# Altium schematic symbol library General - copia.SchLib: 201 symbols (part 1 of 3)
Pins are listed as number, name and electrical type; pins without a type are passive.

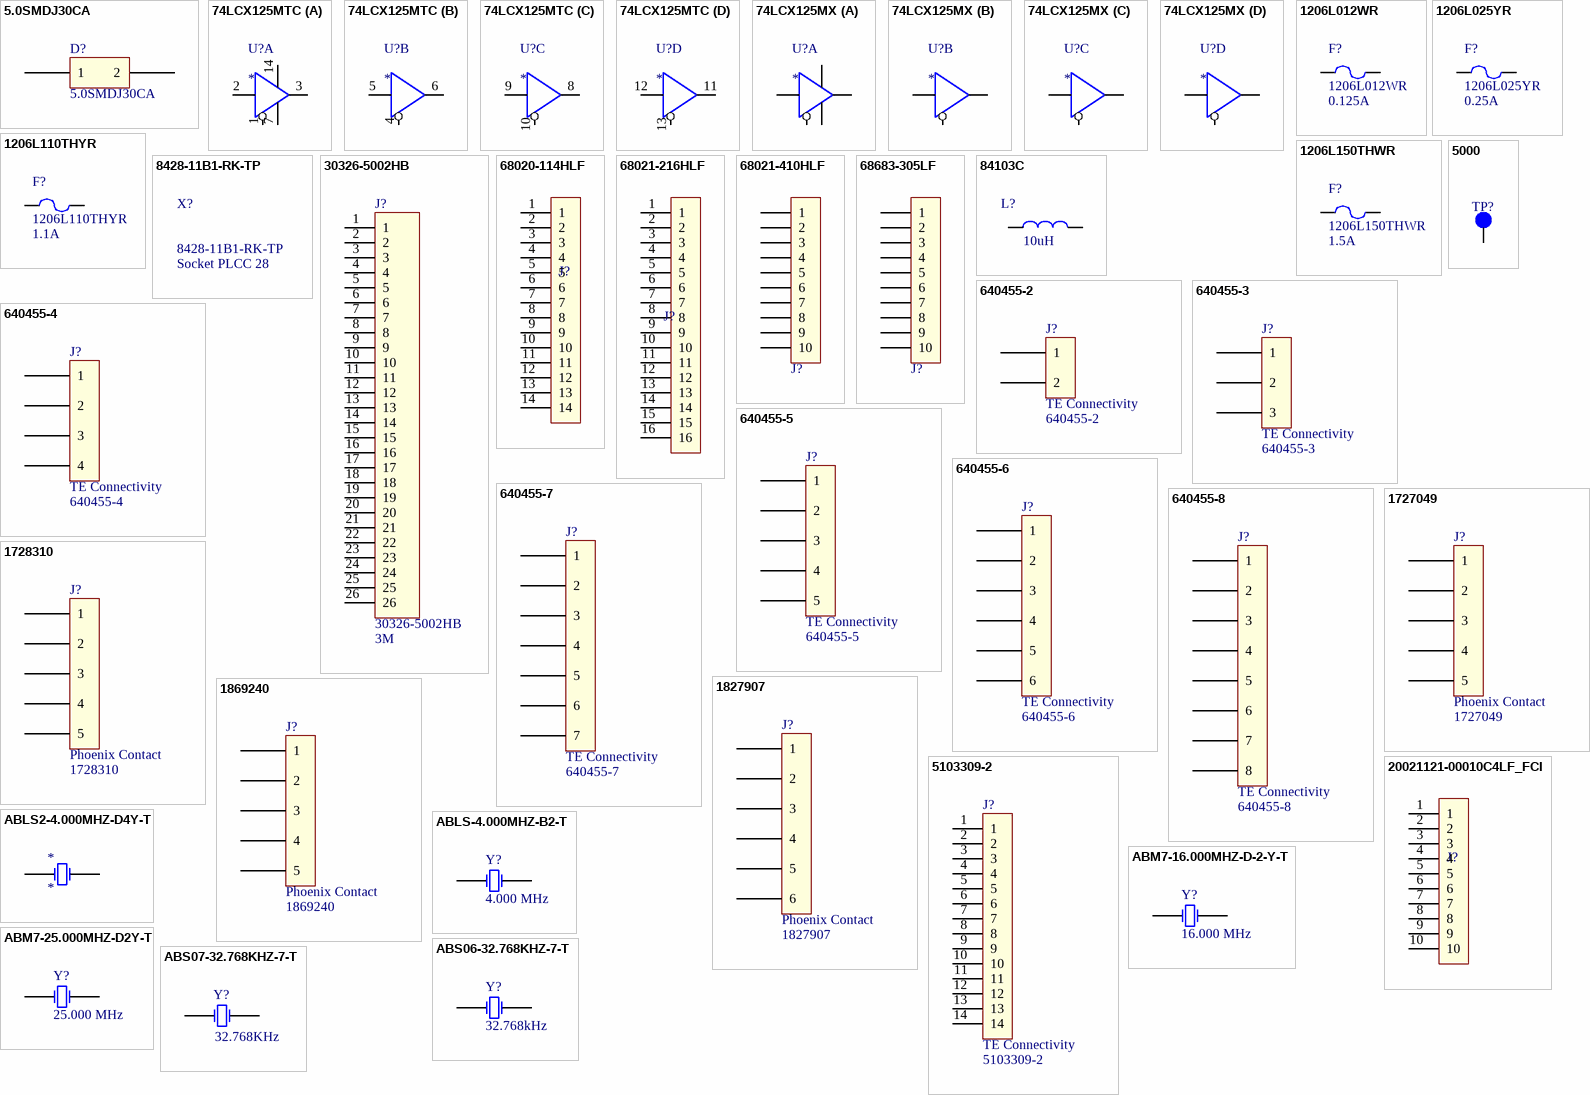
[diagram p0: symbols 5.0SMDJ30CA to ABS07-32.768KHZ-7-T]

## 5.0SMDJ30CA
designator D?
TVS DIODE 30V 48.4V DO214AB; Manufacturer: Bourns; Supplier 1: Digi-Key; Supplier 2: Mouser; Supplier Part Number 1: F6258CT-ND; Supplier Part Number 2: 576-5.0SMDJ30CA; Part Number: 5.0SMDJ30CA
footprint SMC - DIODE BIIDIR - DIOM6959X25M (Molded Diode, 2-Leads, Body 6,9x5,9mm, IPC Low Density)
pins: 1, 2

## 74LCX125MTC
designator U?
Low Voltage Quad Buffer with 5V tolerant; Manufacturer: Fairchild; Part Number: 74LCX125MTC; Supplier 1: Digi-Key; Supplier Part Number 1: 74LCX125MTC-ND; Supplier 2: Mouser; Supplier Part Number 2: 512-74LCX125MTC
footprint TSSOP 14 - TSOP65P640X120-14M (TSOP, 14-Leads, Body 5,1x4,5mm (max), Pitch 0,65mm, IPC Low Density)
part A pins: 1 OE0, 2 A0, 3 O0, 7 GND, 14 VCC
part B pins: 4 OE1, 5 A1, 6 O1
part C pins: 8 O3, 9 A3, 10 OE3
part D pins: 11 O2, 12 A2, 13 OE2

## 74LCX125MX
designator U?
IC BUFFER QUAD LV N-INV 14SOIC; Manufacturer: Fairchild; Part Number: 74LCX125MX; Supplier 1: Digi-Key; Supplier Part Number 1: 74LCX125MXCT-ND; Supplier 2: Mouser; Supplier Part Number 2: 512-74LCX125MX
footprint SOIC14 (SOIC, 14-Leads, Body 10.0x4.0mm (max), Pitch 1.27mm, IPC Medium Density)
part A pins: 1 OE0, 2 A0, 3 O0, 7 GND, 14 VCC
part B pins: 4 OE1, 5 A1, 6 O1
part C pins: 8 O3, 9 A3, 10 OE3
part D pins: 11 O2, 12 A2, 13 OE2

## 1206L012WR
designator F?  Current Hold: 0.125A  (hidden comment: 1206L012WR)
PTC RESET 30V .125A SMD 1206; Manufacturer: Littelfuse Inc; Current Trip: 0.29A; Supplier 1: Digi-Key; Supplier Part Number 1: F2864CT-ND; Supplier 2: Mouser; Supplier Part Number 2: 576-1206L012WR; Part Number: 1206L012WR
footprint 1206 - IND - INDC3216X12N (Chip, 2-Leads, Body 3.2x1.6mm, IPC Medium Density)
pins: 1, 2

## 1206L025YR
designator F?  Current Hold: 0.25A  (hidden comment: 1206L025YR)
FUSE PTC RESET 16V .25A 1206; Manufacturer: Littelfuse Inc; Current Trip: 0.5A; Supplier 1: Digi-Key; Supplier Part Number 1: F2110CT-ND; Supplier 2: Mouser; Supplier Part Number 2: 576-1206L025YR; Part Number: 1206L025YR
footprint 1206 - IND - INDC3216X12N (Chip, 2-Leads, Body 3.2x1.6mm, IPC Medium Density)
pins: 1, 2

## 1206L110THYR
designator F?  Current Hold: 1.1A  (hidden comment: 1206L110THYR)
FUSE PTC RESET 8V 1.10A 1206; Manufacturer: Littelfuse Inc; Current Trip: 2.2A; Supplier 1: Digi-Key; Supplier Part Number 1: F3371CT-ND; Supplier 2: Mouser; Supplier Part Number 2: 576-1206L110THYR; Part Number: 1206L110THYR
footprint 1206 - IND - INDC3216X12N (Chip, 2-Leads, Body 3.2x1.6mm, IPC Medium Density)
pins: 1, 2

## 1206L150THWR
designator F?  Current Hold: 1.5A  (hidden comment: 1206L150THWR)
FUSE PTC RESET 8V 1.50A 1206; Manufacturer: Littelfuse Inc; Current Trip: 3.0A; Supplier 1: Digi-Key; Supplier Part Number 1: F3372CT-ND; Supplier 2: Mouser; Supplier Part Number 2: 576-1206L150THWR; Part Number: 1206L150THWR
footprint 1206 - IND - INDC3216X12N (Chip, 2-Leads, Body 3.2x1.6mm, IPC Medium Density)
pins: 1, 2

## 5000
designator TP?  (value not drawn)
TEST POINT PC MINI .040"D RED; Manufacturer: Keystone Electronics; Part Number: 5000; Supplier 1: Digi-Key; Supplier Part Number 1: 36-5000-ND; Supplier 2: Mouser; Supplier Part Number 2: 534-5000
footprint TESTPOINT
pins: 1

## 8428-11B1-RK-TP
designator X?  Part Number: 8428-11B1-RK-TP  Text: Socket PLCC 28  (hidden comment: *)  (mechanical)
CONN JUMPER SHORTING GOLD FLASH; Manufacturer: 3M; Supplier 1: Digi-Key; Supplier Part Number 1: 3M2811B1-ND; Supplier 2: Mouser; Supplier Part Number 2: 517-8428-11B1-RK-TP

## 30326-5002HB
designator J?  Manufacturer: 3M  Part Number: 30326-5002HB
26 Positions Header, Shrouded Connector 0.100" (2.54mm) Through Hole, Right Angle Gold; Mating Conn: 89126-0101; Supplier 1: Digi-Key; Supplier Part Number 1: 3M11933-ND
footprint 30326-5002HB
pins: 1, 2, 3, 4, 5, 6, 7, 8, 9, 10, 11, 12, 13, 14, 15, 16, 17, 18, 19, 20, 21, 22, 23, 24, 25, 26

## 68020-114HLF
designator J?
Headers & Wire Housings 14P SR UNSHRD HRD .76 GOLD OVER NI; Manufacturer: Amphenol FCI; Manufacturer Part Number: 68020-114HLF; Current Rating: 3A; Voltage Rating: 1.5kV; Number of Positions: 14; Insulation Resistance: 5GR; Gender: Male; Connector Type: Male Pin; Pitch: 2.54mm; Row Spacing: 0.1inch; Contact Post Length: 2.41mm; Supplier 1: Digi-Key; RoHS: Yes; Category: Headers and Wire Housings; Stock 1: 1436; Pricing 1: 1=0,71000, 10=0,66800, 100=0,51240, 500=0,44560, 1000=0,36762 (USD); Mount: Through Hole; Contact Plating: Gold,GXT; Contact Material: Bronze; Color: Black; Housing Color: Black; Housing Material: Thermoplastic; Min Operating Temperature: -65°C; Max Operating Temperature: 125°C; Package Quantity: 100; Packaging: Bulk; Number of Rows: 2; Contact Gender: Male; Termination: Solder; Max Voltage Rating (AC): 1.5kV; Number of Contacts: 14; Orientation: Right Angle; Series: BERGSTIK® II, MezzSelect™, Basics+; Contact Type: Male Pin; Length: 17.78mm; Contact Mating Length: 0.23inch; Depth: 12.44mm; Radiation Hardening: No; Flammability Rating: UL94 V-0; RoHS Compliant: Yes; ComponentLink1URL: https://datasheet.ciiva.com/18653/68020-18653336.pdf?src-supplier=Digi-Key; ComponentLink1Description: https://datasheet.ciiva.com/18653/68020-18653336.pdf?src-supplier=Digi-Key; ComponentLink2URL: https://datasheet.ciiva.com/9473/68020-9473662.pdf?src-supplier=Avnet; ComponentLink2Description: https://datasheet.ciiva.com/9473/68020-9473662.pdf?src-supplier=Avnet; Supplier Part Number 1: 609-6346-ND
footprint 68020-114HLF
pins: 1, 2, 3, 4, 5, 6, 7, 8, 9, 10, 11, 12, 13, 14

## 68021-216HLF
designator J?
CONN HEADER 16POS .100 R/A 15AU; Manufacturer: Amphenol FCI; Manufacturer Part Number: 68021-216HLF; Current Rating: 3A; Voltage Rating: 1.5kV; Gender: Male; Connector Type: Male Pin; Number of Positions: 16; Insulation Resistance: 5GR; Pitch: 2.54mm; Row Spacing: 0.1inch; Contact Post Length: 3.05mm; Supplier 1: Digi-Key; RoHS: Yes; Category: Headers and Wire Housings; Stock 1: 520; Pricing 1: 1=0,77000, 10=0,67500, 100=0,58280, 500=0,47682, 1000=0,42384, 5000=0,37086, 10000=0,35232 (USD); Mount: Through Hole; Color: Black; Contact Plating: Gold,GXT; Contact Material: Bronze; Housing Material: Thermoplastic; Housing Color: Black; Min Operating Temperature: -65°C; Max Operating Temperature: 125°C; Package Quantity: 100; Number of Rows: 2; Packaging: Bulk; Contact Gender: Male; Orientation: Right Angle; Termination: Solder; Number of Contacts: 16; Max Voltage Rating (AC): 1.5kV; Length: 20.32mm; Contact Mating Length: 0.23inch; Depth: 12.44mm; Flammability Rating: UL94 V-0; ComponentLink1URL: https://datasheet.ciiva.com/728/68020-728976.pdf?src-supplier=Digi-Key; ComponentLink1Description: https://datasheet.ciiva.com/728/68020-728976.pdf?src-supplier=Digi-Key
footprint 68021-216HLF
pins: 1, 2, 3, 4, 5, 6, 7, 8, 9, 10, 11, 12, 13, 14, 15, 16

## 68021-410HLF
designator J?  (value not drawn)
CONN MALE HEADER 10POS 2ROWS .100 R/A TIN; Manufacturer: Amphenol FCI; Manufacturer Part Number: 68021-410HLF; Current Rating: 3A; Voltage Rating: 1.5kV; Number of Positions: 10; Insulation Resistance: 5GR; Connector Type: Male Pin; Pitch: 2.54mm; Row Spacing: 0.1inch; Contact Post Length: 3.05mm; Supplier 1: Digi-Key; RoHS: Yes; Category: Headers and Wire Housings; Stock 1: 1500; Pricing 1: 1=0,40000, 10=0,37900, 100=0,26510, 500=0,22722, 1000=0,18935, 5000=0,16230, 10000=0,15148 (USD); Mount: Through Hole; Contact Plating: Tin; Contact Material: Bronze; Color: Black; Housing Color: Black; Housing Material: Thermoplastic; Min Operating Temperature: -65°C; Max Operating Temperature: 125°C; Number of Rows: 2; Contact Gender: Male; Packaging: Bulk; Package Quantity: 100; Termination: Solder; Number of Contacts: 10; Max Voltage Rating (AC): 1.5kV; Orientation: Right Angle; Gender: Male; Series: BERGSTIK® II, MezzSelect™, Basics+; Contact Type: Male Pin; Length: 12.7mm; Contact Mating Length: 0.23inch; Depth: 12.44mm; Radiation Hardening: No; REACH SVHC: No SVHC; Flammability Rating: UL94 V-0; RoHS Compliant: Yes; ComponentLink1URL: https://datasheet.ciiva.com/728/68020-728889.pdf?src-supplier=Digi-Key; ComponentLink1Description: https://datasheet.ciiva.com/728/68020-728889.pdf?src-supplier=Digi-Key; ComponentLink2URL: https://datasheet.ciiva.com/9473/68020-9473769.pdf?src-supplier=Avnet; ComponentLink2Description: https://datasheet.ciiva.com/9473/68020-9473769.pdf?src-supplier=Avnet; Supplier Part Number 1: 609-3354-ND
footprint 68021-410HLF
pins: 1, 2, 3, 4, 5, 6, 7, 8, 9, 10

## 68683-305LF
designator J?  (value not drawn)
CONN FEMALE 10POS 2ROWS 0.1 GOLD PCB; Manufacturer Series: 68683; Manufacturer Part Number: 68683-305LF; Manufacturer: Amphenol FCI; Voltage Rating: 1kV; Current Rating: 3A; Contact Resistance: 20mR; Max Current Rating: 2A; Connector Type: Receptacle; Number of Positions: 10; Option: General Purpose; Number of Rows Loaded: 2; Filter Feature: No; Pitch: 2.54mm; Row Spacing: 0.1inch; Stack Height: 7mm; Supplier 1: Digi-Key; RoHS: Yes; Category: Headers and Wire Housings; Stock 1: 635; Pricing 1: 1=1,62000, 10=1,47400, 100=1,26320, 500=1,05262, 1000=0,90225, 5000=0,80000, 10000=0,78195 (USD); Mount: Through Hole,Board; Color: Black; Contact Material: Bronze,Copper Alloy; Contact Plating: Gold; Housing Color: Black; Housing Material: Polyphenylene; Contact Finish - Termination: TIN (160); Min Operating Temperature: -65°C; Max Operating Temperature: 125°C; Package Quantity: 45; Number of Rows: 2; Packaging: Rail/Tube; Contact Gender: Female; Termination: Solder; Number of Contacts: 10; Max Voltage Rating (AC): 1kV; Gender: Receptacle; Orientation: Straight; Series: DUBOX™, MezzSelect™, Basics+; Contact Type: Female Socket; Mounting Style: STRAIGHT; Mixed Contacts: No; Length: 13.13mm; Width: 5.08mm; Height: 9.91mm; Depth: 5.08mm; Radiation Hardening: No; REACH SVHC: No SVHC; Lead Free: Lead Free; Flammability Rating: UL94 V-0; DIN Conformance: No; IEC Conformance: No; MIL Conformance: No; RoHS Compliant: Yes; ComponentLink1URL: https://datasheet.ciiva.com/26945/getdatasheetpartid-65898-26945509.pdf?src-supplier=Verical; ComponentLink1Description: https://datasheet.ciiva.com/26945/getdatasheetpartid-65898-26945509.pdf?src-supplier=Verical; ComponentLink2URL: https://datasheet.ciiva.com/46394/1483115-46394762.pdf?src-supplier=Element14; ComponentLink2Description: https://datasheet.ciiva.com/46394/1483115-46394762.pdf?src-supplier=Element14; ComponentLink3URL: https://datasheet.ciiva.com/16738/68683-16738509.pdf?src-supplier=Avnet+Europe; ComponentLink3Description: https://datasheet.ciiva.com/16738/68683-16738509.pdf?src-supplier=Avnet+Europe; ComponentLink4URL: https://datasheet.ciiva.com/752/68683-752708.pdf?src-supplier=Digi-Key; ComponentLink4Description: https://datasheet.ciiva.com/752/68683-752708.pdf?src-supplier=Digi-Key; ComponentLink5URL: https://datasheet.ciiva.com/9473/68683-9473656.pdf?src-supplier=Avnet; ComponentLink5Description: https://datasheet.ciiva.com/9473/68683-9473656.pdf?src-supplier=Avnet; Supplier Part Number 1: 609-3573-ND; Part Number: 68683-305LF
footprint 68683-305LF
pins: 1, 2, 3, 4, 5, 6, 7, 8, 9, 10

## 84103C
designator L?  value 10uH  (hidden comment: 84103C)
FIXED IND 10UH 950MA 240 MOHM; Manufacturer: Murata Power Solutions Inc.; Part Number: 84103C; Supplier 1: Digi-Key; Supplier Part Number 1: 811-3631-1-ND; Supplier 2: Mouser; Supplier Part Number 2: 580-84103C
footprint 84103C (Murata Inductor)
pins: 1, 2

## 640455-2
designator J?  Manufacturer: TE Connectivity  Part Number: 640455-2
CONN HEADER RTANG 2POS .100 TIN; Mating Conn: 1375820-2; Supplier 1: Digi-Key; Supplier Part Number 1: A19450-ND; Supplier 2: Mouser; Supplier Part Number 2: 571-6404552
footprint TE-640455-2 (CONN HEADER RTANG 2POS .100 TIN)
pins: 1, 2

## 640455-3
designator J?  Manufacturer: TE Connectivity  Part Number: 640455-3
CONN HEADER RTANG 3POS .100 TIN; Mating Conn: 1375820-3; Supplier 1: Digi-Key; Supplier Part Number 1: A19451-ND; Supplier 2: Mouser; Supplier Part Number 2: 571-6404553
footprint TE-640455-3 (CONN HEADER RTANG 3POS .100 TIN)
pins: 1, 2, 3

## 640455-4
designator J?  Manufacturer: TE Connectivity  Part Number: 640455-4
CONN HEADER RTANG 4POS .100 TIN; Mating Conn: 1375820-4; Supplier 1: Digi-Key; Supplier Part Number 1: A19452-ND; Supplier 2: Mouser; Supplier Part Number 2: 571-6404554
footprint TE-640455-4 (CONN HEADER RTANG 4POS .100 TIN)
pins: 1, 2, 3, 4

## 640455-5
designator J?  Manufacturer: TE Connectivity  Part Number: 640455-5
CONN HEADER RTANG 5POS .100 TIN; Mating Conn: 1375820-5; Supplier 1: Digi-Key; Supplier 2: Mouser; Supplier Part Number 1: A19453-ND; Supplier Part Number 2: 571-6404555
footprint TE-640455-5 (CONN HEADER RTANG 5POS .100 TIN)
pins: 1, 2, 3, 4, 5

## 640455-6
designator J?  Manufacturer: TE Connectivity  Part Number: 640455-6
CONN HEADER RTANG 6POS .100 TIN; Mating Conn: 1375820-6; Supplier 1: Digi-Key; Supplier Part Number 1: A19454-ND; Supplier 2: Mouser; Supplier Part Number 2: 571-6404556
footprint TE-640455-6 (CONN HEADER RTANG 6POS .100 TIN)
pins: 1, 2, 3, 4, 5, 6

## 640455-7
designator J?  Manufacturer: TE Connectivity  Part Number: 640455-7
CONN HEADER RTANG 7POS .100 TIN; Mating Conn: 1375820-7; Supplier 1: Digi-Key; Supplier 2: Mouser; Supplier Part Number 1: A19455-ND; Supplier Part Number 2: 571-640455-7
footprint TE-640455-7 (CONN HEADER RTANG 2POS .100 TIN)
pins: 1, 2, 3, 4, 5, 6, 7

## 640455-8
designator J?  Manufacturer: TE Connectivity  Part Number: 640455-8
CONN HEADER RTANG 8POS .100 TIN; Mating Conn: 1375820-8
footprint TE-640455-8 (CONN HEADER RTANG 8POS .100 TIN)
pins: 1, 2, 3, 4, 5, 6, 7, 8

## 1727049
designator J?  Manufacturer: Phoenix Contact  Part Number: 1727049
TERM BLK 5P SIDE ENT 3.81MM PCB
footprint PHOENIX CONTACT 1727049 (TERM BLK 5P SIDE ENT 3.81MM PCB)
pins: 1, 2, 3, 4, 5

## 1728310
designator J?  Manufacturer: Phoenix Contact  (hidden comment: 1728310)
TERM BLOCK 5POS 55DEG 3.81MM PCB; Part Number: 1728310
footprint PHOENIX 1728310 (TERM BLOCK 5POS 55DEG 3.81MM PCB)
pins: 1, 2, 3, 4, 5

## 1827907
designator J?  Manufacturer: Phoenix Contact  Part Number: 1827907
TERM BLOCK HDR 6POS R/A 3.81MM; Supplier 1: Digi-Key; Supplier Part Number 1: 277-5806-ND; Supplier 2: Mouser; Supplier Part Number 2: 651-1827907
footprint 1827907 (TERM BLOCK HDR 6POS R/A 3.81M)
pins: 1, 2, 3, 4, 5, 6

## 1869240
designator J?  Manufacturer: Phoenix Contact  (hidden comment: 1869240)
TERM BLOCK 5POS 55DEG 5.08MM PCB; Supplier 1: Digi-Key; Supplier Part Number 1: 277-6108-ND; Supplier 2: Mouser; Supplier Part Number 2: 651-1869240; Part Number: 1869240
pins: 1, 2, 3, 4, 5

## 5103309-2
designator J?  Manufacturer: TE Connectivity  (hidden comment: 5103309-2)
CONN HEADER VERT 14POS 2.54MM; Supplier 1: Digi-Key; Supplier Part Number 1: A33162-ND; Supplier 2: Mouser; Supplier Part Number 2: 571-5103309-2; Part Number: 5103309-2
footprint TYCO_5103309-2
pins: 1, 2, 3, 4, 5, 6, 7, 8, 9, 10, 11, 12, 13, 14

## 20021121-00010C4LF_FCI
designator J?  (value not drawn)
CONN HEADER 10POS DL UNSHRD SMD; Manufacturer: Amphenol FCI; Manufacturer Part Number: 20021121-00010C4LF; Digikey Part Number: 609-3695-1-ND; Mouser Part Number: 649-202112100010C4LF
footprint FCI_20021121-00010C4LF (CONNECTOR, MICRO TERMINAL STRIP, 10POS, 2ROW, 1.27MM)
pins: 1, 2, 3, 4, 5, 6, 7, 8, 9, 10

## ABLS2-4.000MHZ-D4Y-T
designator *
CRYSTAL 4.0000MHZ 18PF SMD; Manufacturer: Abracon; Manufacturer Part Number: ABLS2-4.000MHZ-D4Y-T; Frequency: 4MHz; Frequency Tolerance: 30ppm; ESR (Equivalent Series Resistance): 180R; Supplier 1: Digi-Key; RoHS: Yes; Category: Oscillators; Stock 1: 15129; Pricing 1: 1=0,40000, 10=0,33600, 50=0,30240, 100=0,26880, 500=0,25536 (USD); Mount: Surface Mount; Min Operating Temperature: -40°C; Max Operating Temperature: 85°C; Package Quantity: 1000; Load Capacitance: 18pF; Packaging: Tape and Reel; Tolerance: 30ppm; Frequency Stability: 30ppm; Termination: SMD/SMT; Series Resistance: 180R; Length: 11.4mm; Width: 4.7mm; Height: 3.3mm; Depth: 4.7mm; REACH SVHC: Unknown; Lead Free: Lead Free; ComponentLink1URL: https://datasheet.ciiva.com/854/abls2-854402.pdf?src-supplier=Digi-Key; ComponentLink1Description: https://datasheet.ciiva.com/854/abls2-854402.pdf?src-supplier=Digi-Key; ComponentLink2URL: https://datasheet.ciiva.com/854/abls2-854403.pdf?src-supplier=Digi-Key; ComponentLink2Description: https://datasheet.ciiva.com/854/abls2-854403.pdf?src-supplier=Digi-Key; ComponentLink3URL: https://datasheet.ciiva.com/854/abls2-854404.pdf?src-supplier=Digi-Key; ComponentLink3Description: https://datasheet.ciiva.com/854/abls2-854404.pdf?src-supplier=Digi-Key; ComponentLink4URL: https://datasheet.ciiva.com/7998/1749648-7998470.pdf?src-supplier=Element14; ComponentLink4Description: https://datasheet.ciiva.com/7998/1749648-7998470.pdf?src-supplier=Element14; Supplier Part Number 1: 535-9857-1-ND; Value: 4.0000MHZ; Part Number: ABLS2-4.000MHZ-D4Y-T
footprint ABLS2-4.000MHZ-D4Y-T
pins: 1 OSC1, 2 OSC2

## ABLS-4.000MHZ-B2-T
designator Y?  value 4.000 MHz  (hidden comment: ABLS-4.000MHZ-B2-T)
CRYSTAL 4.0000MHZ 18PF SMD; Manufacturer: Abracon; Part Number: ABLS-4.000MHZ-B2-T; Supplier 1: Digi-Key; Supplier Part Number 1: 535-9085-1-ND; Supplier 2: Mouser; Supplier Part Number 2: 815-ABLS-4-B2
footprint ABLS-4.000MHZ-B2-T
pins: 1 OSC1, 2 OSC2

## ABM7-16.000MHZ-D-2-Y-T
designator Y?  value 16.000 MHz  (hidden comment: ABM7-16.000MHZ-D-2-Y-T)
CRYSTAL 16.0000 MHZ 18PF SMD; Manufacturer: Abracon; Part Number: ABM7-16.000MHZ-D-2-Y-T; Supplier 1: Digi-Key; Supplier Part Number 1: 535-9840-6-ND; Supplier 2: Mouser; Supplier Part Number 2: 815-ABM7-16-D2Y-T
footprint XTAL-ABM7 (2-Leads, Body 6.0x3.5mm, IPC Medium Density)
pins: 1 OSC1, 2 OSC2

## ABM7-25.000MHZ-D2Y-T
designator Y?  value 25.000 MHz  (hidden comment: ABM7-25.000MHZ-D2Y-T)
CRYSTAL 25.0000MHZ 18PF SMD; Manufacturer: Abracon; Part Number: ABM7-25.000MHZ-D2Y-T; Supplier 1: Digi-Key; Supplier Part Number 1: 535-9847-6-ND; Supplier 2: Mouser; Supplier Part Number 2: 815-ABM7-25-D2Y-T
footprint XTAL-ABM7 (2-Leads, Body 6.0x3.5mm, IPC Medium Density)
pins: 1 OSC1, 2 OSC2

## ABS06-32.768KHZ-7-T
designator Y?  value 32.768kHz  (hidden comment: ABS06-32.768KHZ-7-T)
CRYSTAL 32.768KHZ 7PF SMD; Manufacturer: Abracon; Supplier 1: Digi-Key; Part Number: ABS06-32.768KHZ-7-T; RoHS: Yes; Stock 1: 1703; Pricing 1: 1=1,12000, 10=1,07300, 50=1,04840, 100=0,89860, 500=0,87360, 1000=0,73632 (USD); RoHS Compliant: Yes; Supplier Part Number 1: 535-15020-1-ND
footprint Abracon-ABS06 (Chip Inductor, 2-Leads, Body 3,2x1,5mm, IPC Low Density)
pins: 1 OSC1, 2 OSC2

## ABS07-32.768KHZ-7-T
designator Y?  value 32.768KHz  (hidden comment: ABS07-32.768KHZ-7-T)
CRYSTAL 32.768KHZ 7PF SMD; Manufacturer: Abracon; Part Number: ABS07-32.768KHZ-7-T; Supplier 1: Digi-Key; Supplier Part Number 1: 535-9543-1-ND; Supplier 2: Mouser; Supplier Part Number 2: 815-ABS07-32.768K7T
footprint Abracon-ABS07 (Chip Inductor, 2-Leads, Body 3,2x1,5mm, IPC Low Density)
pins: 1 OSC1, 2 OSC2

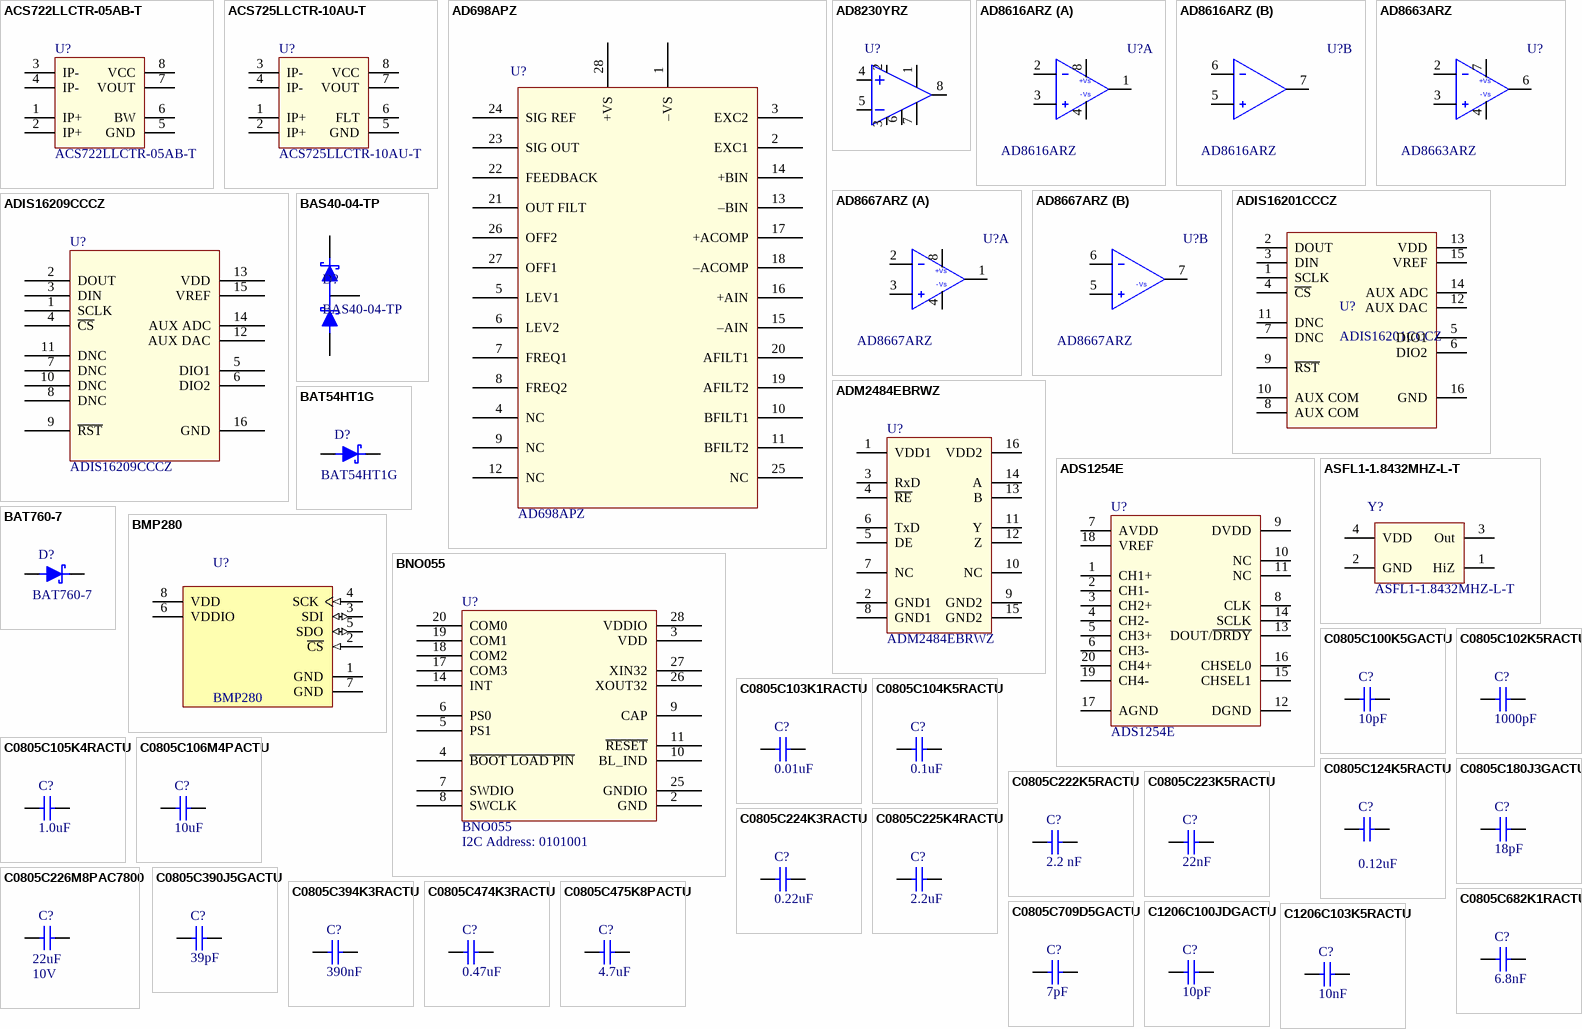
[diagram p1: symbols ACS722LLCTR-05AB-T to C1206C103K5RACTU]

## ACS722LLCTR-05AB-T
designator U?  Part Number: ACS722LLCTR-05AB-T
SENSOR CURRENT HALL 5A AC/DC; Manufacturer: Allegro MicroSystems, LLC; Supplier 1: Digi-Key; Supplier Part Number 1: 620-1634-1-ND
footprint SOIC8 (SOIC, 8-Leads, Body 5.0x4.0mm (max), Pitch 1.27mm, IPC Medium Density)
pins: 1 IP+, 2 IP+, 3 IP-, 4 IP-, 5 GND, 6 BW, 7 VOUT, 8 VCC

## ACS725LLCTR-10AU-T
designator U?  Part Number: ACS725LLCTR-10AU-T
SENSOR CURRENT HALL 10A DC; Manufacturer: Allegro MicroSystems, LLC; Supplier 1: Digi-Key; Supplier Part Number 1: 620-1723-1-ND
footprint SOIC8 (SOIC, 8-Leads, Body 5.0x4.0mm (max), Pitch 1.27mm, IPC Medium Density)
pins: 1 IP+, 2 IP+, 3 IP-, 4 IP-, 5 GND, 6 FLT, 7 VOUT, 8 VCC

## AD698APZ
designator U?  Part Number: AD698APZ
IC LVDT SIGNAL COND 28-PLCC; Manufacturer: Analog Devices Inc.; Supplier 1: Digi-Key; Supplier 2: Mouser; Supplier Part Number 1: AD698APZ-ND; Supplier Part Number 2: 584-AD698APZ; Socket: 8428-11B1-RK-TP
footprint 8428-11B1-RK-TP (PLCC 28 SOCKET)
pins: 1 –VS, 2 EXC1, 3 EXC2, 4 NC, 5 LEV1, 6 LEV2, 7 FREQ1, 8 FREQ2, 9 NC, 10 BFILT1, 11 BFILT2, 12 NC, 13 –BIN, 14 +BIN, 15 –AIN, 16 +AIN, 17 +ACOMP, 18 –ACOMP, 19 AFILT2, 20 AFILT1, 21 OUT FILT, 22 FEEDBACK, 23 SIG OUT, 24 SIG REF, 25 NC, 26 OFF2, 27 OFF1, 28 +VS

## AD8230YRZ
designator U?  (value not drawn)
IC AMP CHOPPER R-R PREC 8SOIC; Manufacturer: Analog Devices Inc; Part Number: AD8230YRZ; Supplier 1: Digi-Key; Supplier Part Number 1: AD8230YRZ-ND; Supplier 2: Mouser; Supplier Part Number 2: 584-AD8230YRZ
footprint SOIC8 (SOIC, 8-Leads, Body 5.0x4.0mm (max), Pitch 1.27mm, IPC Medium Density)
pins: 1 -Vs, 2 +Vs, 3 Vref1, 4 + IN, 5 - IN, 6 Vref2, 7 Rg, 8 Vout

## AD8616ARZ
designator U?  Part Number: AD8616ARZ
IC OPAMP GP 24MHZ RRO 8SOIC; Manufacturer: Analog Devices Inc; Supplier 1: Digi-Key; Supplier Part Number 1: AD8616ARZ-ND; Supplier 2: Mouser; Supplier Part Number 2: 584-AD8616ARZ
footprint SOIC8 (SOIC, 8-Leads, Body 5.0x4.0mm (max), Pitch 1.27mm, IPC Medium Density)
part A pins: 1 OutA, 2 -InA, 3 +InA, 4 -Vs (power), 8 +VS (power)
part B pins: 5 +InB, 6 -InB, 7 OutB
part A text: +Vs

## AD8663ARZ
designator U?  Part Number: AD8663ARZ
IC OPAMP GP 540KHZ RRO 8SOIC; Manufacturer: Analog Devices Inc; Supplier 1: Digi-Key; Supplier Part Number 1: AD8663ARZ-ND; Supplier 2: Mouser; Supplier Part Number 2: 584-AD8663ARZ
footprint SOIC8 (SOIC, 8-Leads, Body 5.0x4.0mm (max), Pitch 1.27mm, IPC Medium Density)
pins: 2 -In, 3 +In, 4 -Vs (power), 6 Out, 7 +VS (power)
text: +Vs

## AD8667ARZ
designator U?  Part Number: AD8667ARZ
IC OPAMP GP 540KHZ RRO 8SOIC; Manufacturer: Analog Devices Inc; Supplier 1: Digi-Key; Supplier Part Number 1: AD8667ARZ-ND
footprint SOIC8 (SOIC, 8-Leads, Body 5.0x4.0mm (max), Pitch 1.27mm, IPC Medium Density)
part A pins: 1 OutA, 2 -InA, 3 +InA, 4 -Vs (power), 8 +VS (power)
part B pins: 5 +InB, 6 -InB, 7 OutB
part A text: +Vs

## ADIS16201CCCZ
designator U?
IC MEMS Accelerometer, Dual-Axis, Digital, X, Y,  1.7g, 3 V, 3.6 V, LGA; Manufacturer: Analog Devices; Output Type: SPI; Nominal Supply Current: 11uA; Operating Supply Current: 11mA; -3db Bandwidth: 2.25kHz; Sensor Type: Accelerometer,2 Axis,Inclinometer; Min Supply Voltage: 3V; Max Supply Voltage: 3.6V; Resolution: 12b; Supplier 1: Digi-Key; Part Number: ADIS16201CCCZ; RoHS: Yes; Category: Inertial Measurement Units (IMUs); Stock 1: 86; Pricing 1: 1=49,35000, 10=46,04200, 25=44,11200, 100=39,97650 (USD); Mount: Surface Mount; Case/Package: LGA; Number of Pins: 16; Contact Plating: Gold; Min Operating Temperature: -40°C; Max Operating Temperature: 125°C; Interface: SPI; Package Quantity: 1; Packaging: Tray; Series: iMEMS®, iSensor™; Supply Current: 11uA; REACH SVHC: No SVHC; Lead Free: Contains Lead; RoHS Compliant: Yes; ComponentLink1URL: https://datasheet.ciiva.com/26928/adis16201cccz-26928665.pdf?src-supplier=IIIC; ComponentLink1Description: https://datasheet.ciiva.com/26928/adis16201cccz-26928665.pdf?src-supplier=IIIC; ComponentLink2URL: https://datasheet.ciiva.com/2809/adis16201-2809730.pdf?src-supplier=Digi-Key; ComponentLink2Description: https://datasheet.ciiva.com/2809/adis16201-2809730.pdf?src-supplier=Digi-Key; ComponentLink3URL: https://datasheet.ciiva.com/1165/1811592-1165330.pdf?src-supplier=Element14; ComponentLink3Description: https://datasheet.ciiva.com/1165/1811592-1165330.pdf?src-supplier=Element14; Supplier Part Number 1: ADIS16201CCCZ-ND
footprint LGA16 (LGA, 16-Leads, Body 9.20x9.20mmx3.90mm, Pitch 1.80mm)
pins: 1 SCLK, 2 DOUT, 3 DIN, 4 ~{CS}, 5 DIO1, 6 DIO2, 7 DNC, 8 AUX COM, 9 ~{RST}, 10 AUX COM, 11 DNC, 12 AUX DAC, 13 VDD, 14 AUX ADC, 15 VREF, 16 GND

## ADIS16209CCCZ
designator U?
IMU ACCEL/INCLINE SPI LGA16; Manufacturer: Analog Devices Inc.; Supplier 1: Digi-Key; Supplier Part Number 1: ADIS16209CCCZ-ND; Supplier 2: Mouser; Supplier Part Number 2: 584-ADIS16209CCCZ; Part Number: ADIS16209CCCZ
footprint LGA16 (LGA, 16-Leads, Body 9.20x9.20mmx3.90mm, Pitch 1.80mm)
pins: 1 SCLK, 2 DOUT, 3 DIN, 4 ~{CS}, 5 DIO1, 6 DIO2, 7 DNC, 8 DNC, 9 ~{RST}, 10 DNC, 11 DNC, 12 AUX DAC, 13 VDD, 14 AUX ADC, 15 VREF, 16 GND

## ADM2484EBRWZ
designator U?  Part Number: ADM2484EBRWZ
DGTL ISO 5KV RS422/RS485 16SOIC; Manufacturer: Analog Devices Inc.; Supplier 1: Digi-Key; Supplier 2: Mouser; Supplier Part Number 1: ADM2484EBRWZ-ND; Supplier Part Number 2: 584-ADM2484EBRWZ
footprint SOIC16 (SOIC, 16-Leads, Body 10,30x7,50mm, Pitch 1,27mm, IPC Low Density)
pins: 1 VDD1, 2 GND1, 3 RxD, 4 ~{RE}, 5 DE, 6 TxD, 7 NC, 8 GND1, 9 GND2, 10 NC, 11 Y, 12 Z, 13 B, 14 A, 15 GND2, 16 VDD2

## ADS1254E
designator U?  Part Number: ADS1254E
IC ADC 24BIT SER 20.8KHZ 20-QSOP; Manufacturer: Texas Instruments; Supplier 1: Digi-Key; Supplier Part Number 1: ADS1254E-ND; Supplier 2: Mouser; Supplier Part Number 2: 595-ADS1254E
footprint SSOP20 (SOP, 20-Leads, Body 8.65x3.90mm, Pitch 0.64mm, IPC Medium Density)
pins: 1 CH1+, 2 CH1-, 3 CH2+, 4 CH2-, 5 CH3+, 6 CH3-, 7 AVDD, 8 CLK, 9 DVDD, 10 NC, 11 NC, 12 DGND, 13 DOUT/~{DRDY}, 14 SCLK, 15 CHSEL1, 16 CHSEL0, 17 AGND, 18 VREF, 19 CH4-, 20 CH4+

## ASFL1-1.8432MHZ-L-T
designator Y?  Part Number: ASFL1-1.8432MHZ-L-T  (hidden comment: *)
OSC XO 1.8432MHZ HCMOS TTL SMD; Manufacturer: Abracon LLC; Supplier 1: Digi-Key; Supplier Part Number 1: 535-10802-6-ND; Supplier 2: Mouser; Supplier Part Number 2: 815-ASFL1-1.8432-L-T
footprint ASFL1
pins: 1 HiZ, 2 GND, 3 Out, 4 VDD

## BAS40-04-TP
designator D?
DIODE ARRAY SCHOTTKY 40V SOT23; Manufacturer: MCC; Max Surge Current: 600mA; Recovery Time: 5ns; Forward Current: 200mA; Forward Voltage: 1V; Max Reverse Leakage Current: 200nA; Power Dissipation: 200mW; Capacitance: 5pF; Element Configuration: Single; Supplier 1: Digi-Key; Manufacturer Part Number: BAS40-04-TP; RoHS: Yes; Category: Rectifier Diodes; Stock 1: 1037806; Pricing 1: 1=0,24000, 10=0,19400, 100=0,07920, 500=0,06606, 1000=0,04590 (USD); Mount: Surface Mount; Case/Package: SOT-23; Number of Pins: 3; Min Operating Temperature: -55°C; Max Operating Temperature: 125°C; Package Quantity: 3000; Packaging: Tape and Reel; Average Rectified Current: 200mA; Reverse Recovery Time: 5ns; Max Forward Surge Current (Ifsm): 600mA; Max Reverse Current: 200nA; Max Repetitive Reverse Voltage (Vrrm): 40V; Peak Non-Repetitive Surge Current: 600mA; Max Reverse Voltage (DC): 40V; Length: 3.04mm; Width: 1.4mm; Height: 1.02mm; Radiation Hardening: No; REACH SVHC: Unknown; Lead Free: Lead Free; ComponentLink1URL: https://datasheet.ciiva.com/4716/bas40-bas70sot-23-28891-4716000.pdf?src-supplier=Mouser; ComponentLink1Description: https://datasheet.ciiva.com/4716/bas40-bas70sot-23-28891-4716000.pdf?src-supplier=Mouser; ComponentLink2URL: https://datasheet.ciiva.com/23684/1684803-23684306.pdf?src-supplier=Newark; ComponentLink2Description: https://datasheet.ciiva.com/23684/1684803-23684306.pdf?src-supplier=Newark; ComponentLink3URL: https://datasheet.ciiva.com/906/bas40-bas70sot-23-906320.pdf?src-supplier=Digi-Key; ComponentLink3Description: https://datasheet.ciiva.com/906/bas40-bas70sot-23-906320.pdf?src-supplier=Digi-Key; ComponentLink4URL: https://datasheet.ciiva.com/15200/getdatasheetpartid-226544-15200426.pdf?src-supplier=Verical; ComponentLink4Description: https://datasheet.ciiva.com/15200/getdatasheetpartid-226544-15200426.pdf?src-supplier=Verical; ComponentLink5URL: https://datasheet.ciiva.com/7624/1684803-7624699.pdf?src-supplier=Element14; ComponentLink5Description: https://datasheet.ciiva.com/7624/1684803-7624699.pdf?src-supplier=Element14; ComponentLink6URL: https://datasheet.ciiva.com/906/bas40-bas70sot-23-906318.pdf?src-supplier=Digi-Key; ComponentLink6Description: https://datasheet.ciiva.com/906/bas40-bas70sot-23-906318.pdf?src-supplier=Digi-Key; ComponentLink7URL: https://datasheet.ciiva.com/906/bas40-bas70sot-23-906319.pdf?src-supplier=Digi-Key; ComponentLink7Description: https://datasheet.ciiva.com/906/bas40-bas70sot-23-906319.pdf?src-supplier=Digi-Key; Supplier Part Number 1: BAS40-04TPMSCT-ND; Part Number: BAS40-04-TP
footprint SOT23-3M (SOT23, 3-Leads, Body 2.9x1.3mm, Pitch 0.95mm, Lead Span 2.5mm, IPC Low Density)
pins: 1, 2, 3

## BAT54HT1G
designator D?
DIODE SCHOTTKY 30V 200MA SOD323; Manufacturer: Fairchild; IF(avg): 0.2A; VR(rms): 30V; Supplier 1: Digi-Key; Supplier Part Number 1: BAT54HT1GOSCT-ND; Supplier 2: Mouser; Supplier Part Number 2: 863-BAT54HT1G; Part Number: BAT54HT1G
footprint SOD323 - DIODE UNIDIR - DIOM2512X11N (Molded Diode, 2-Leads, Body 2.5x1.3mm, IPC Medium Density)
pins: 1 A, 2 K

## BAT760-7
designator D?
DIODE SCHOTTKY 30V 1A SOD323; Manufacturer: Diodes Incorporated; IF(avg): 1.0A; VR(rms): 30V; Supplier 1: Digi-Key; Supplier Part Number 1: BAT760DICT-ND; Supplier 2: Mouser; Supplier Part Number 2: 621-BAT760-7; Part Number: BAT760-7
footprint SOD323 - DIODE UNIDIR - DIOM2512X11N (Molded Diode, 2-Leads, Body 2.5x1.3mm, IPC Medium Density)
pins: 1 A, 2 K

## BMP280
designator U?
BMP280 Absolute Barometric Pressure Sensor for Battery Powered Devices 2 x 2.5mm; Manufacturer: Bosch; Output Type: SPI,I2C; Operating Pressure: 15.95PSI; Port Style: No Port; Max Pressure: 290.08PSI; Supplier 1: Digi-Key; Part Number: BMP280; RoHS: No; Category: Pressure Sensors; Pricing 1: 1=3,26000, 5=3,02200, 10=2,51100, 25=2,09240, 50=1,86000, 100=1,76700, 500=1,48800, 1000=1,39500, 5000=1,30200 (USD); Case/Package: SMD/SMT; Number of Pins: 8; Min Operating Temperature: -40°C; Max Operating Temperature: 85°C; Pressure Type: Absolute; Termination: SMD/SMT; Lead Free: Lead Free; ComponentLink1URL: https://ae-bst.resource.bosch.com/media/_tech/media/datasheets/BST-BMP280-DS001.pdf?src-supplier=Digi-Key; ComponentLink1Description: https://ae-bst.resource.bosch.com/media/_tech/media/datasheets/BST-BMP280-DS001.pdf?src-supplier=Digi-Key; Supplier Part Number 1: 828-1064-1-ND
footprint FP-BMP280-MFG
pins: 1 GND (power), 2 ~{CS} (in), 3 SDI (io), 4 SCK (in), 5 SDO (io), 6 VDDIO (power), 7 GND (power), 8 VDD (power)

## BNO055
designator U?  I2C Address: 0101001
IMU ACCEL/GYRO/MAG I2C 28LGA; Manufacturer: Bosch; Sensor Type: Accelerometer,Gyroscope,Magnetometer,3 Axis; Supplier 1: Mouser; Manufacturer Part Number: BNO055; RoHS: No; Category: Inertial Measurement Units (IMUs); Stock 1: 4512; Pricing 1: 1=10,06000, 10=7,53000, 50=6,15000, 100=5,63000, 1000=5,63000, 10000=5,03000 (USD); Mount: Surface Mount; Case/Package: LGA; Min Operating Temperature: -40°C; Max Operating Temperature: 85°C; Output Type: I2C; Packaging: Tape and Reel; Lead Free: Lead Free; ComponentLink1URL: https://ae-bst.resource.bosch.com/media/_tech/media/application_notes/BST-BNO055-HS000.pdf ?src-supplier=Digi-Key; ComponentLink1Description: https://ae-bst.resource.bosch.com/media/_tech/media/application_notes/BST-BNO055-HS000.pdf ?src-supplier=Digi-Key; Supplier Part Number 1: 262-BNO055; Part Number: BNO055
footprint FP-BNO055-MFG
pins: 2 GND, 3 VDD, 4 ~{BOOT LOAD PIN}, 5 PS1, 6 PS0, 7 SWDIO, 8 SWCLK, 9 CAP, 10 BL_IND, 11 ~{RESET}, 14 INT, 17 COM3, 18 COM2, 19 COM1, 20 COM0, 25 GNDIO, 26 XOUT32, 27 XIN32, 28 VDDIO

## C0805C100K5GACTU
designator C?  value 10pF  (hidden comment: C0805C100K5GACTU)
CAP CER 10PF 50V C0G/NP0 0805; Manufacturer: Kemet; Tolerance: 10%; Part Number: C0805C100K5GACTU; Supplier 1: Digi-Key; Supplier Part Number 1: 399-7975-1-ND; Supplier 2: Mouser; Supplier Part Number 2: 80-C0805C100K5G
footprint 0805 - CAP - CAPC2012X06N (Chip Capacitor, 2-Leads, Body 2.0x1.3mm, IPC Medium Density)
pins: 1, 2

## C0805C102K5RACTU
designator C?  value 1000pF
CAP CER 1000PF 50V X7R 0805; Part Number: C0805C102K5RACTU; Manufacturer: Kemet; Tolerance: 10%; Supplier 1: Digi-Key; Supplier Part Number 1: 399-1147-6-ND; Supplier 2: Mouser; Supplier Part Number 2: 80-C0805C102K5R
footprint 0805 - CAP - CAPC2012X06N (Chip Capacitor, 2-Leads, Body 2.0x1.3mm, IPC Medium Density)
pins: 1, 2

## C0805C103K1RACTU
designator C?  value 0.01uF
CAP CER 10000PF 100V X7R 0805; Part Number: C0805C103K1RACTU; Manufacturer: Kemet; Tolerance: 10%; Supplier 1: Digi-Key; Supplier Part Number 1: 399-1159-1-ND; Supplier 2: Mouser; Supplier Part Number 2: 80-C0805C103K1R
footprint 0805 - CAP - CAPC2012X06N (Chip Capacitor, 2-Leads, Body 2.0x1.3mm, IPC Medium Density)
pins: 1, 2

## C0805C104K5RACTU
designator C?  value 0.1uF
CAP CER 0.1UF 50V X7R 0805; Part Number: C0805C104K5RACTU; Manufacturer: Kemet; Tolerance: 10%; Supplier 1: Digi-Key; Supplier Part Number 1: 399-1170-1-ND; Supplier 2: Mouser; Supplier Part Number 2: 80-C0805C104K5R
footprint 0805 - CAP (Chip Capacitor, 2-Leads, Body 2.00x1.30mm, IPC Medium Density)
pins: 1, 2

## C0805C105K4RACTU
designator C?  value 1.0uF
CAP CER 1UF 16V X7R 0805; Part Number: C0805C105K4RACTU; Manufacturer: Kemet; Tolerance: 10%; Supplier 1: Digi-Key; Supplier Part Number 1: 399-1284-1-ND; Supplier 2: Mouser; Supplier Part Number 2: 80-C0805C105K4R
footprint 0805 - CAP - CAPC2012X06N (Chip Capacitor, 2-Leads, Body 2.0x1.3mm, IPC Medium Density)
pins: 1, 2

## C0805C106M4PACTU
designator C?  value 10uF  (hidden comment: C0805C106M4PACTU)
CAP CER 10UF 16V X5R 0805; Manufacturer: Kemet; Tolerance: 10%; Part Number: C0805C106M4PACTU; Supplier 1: Digi-Key; Supplier Part Number 1: 399-8013-1-ND; Supplier 2: Mouser; Supplier Part Number 2: 80-C0805C106M4P
footprint 0805 - CAP - CAPC2012X06N (Chip Capacitor, 2-Leads, Body 2.0x1.3mm, IPC Medium Density)
pins: 1, 2

## C0805C124K5RACTU
designator C?  value 0.12uF  (hidden comment: C0805C124K5RACTU)
CAP CER 0.12UF 50V X7R 0805; Manufacturer: KEMET; Dielectric Material: Ceramic; Capacitance: 120nF; Tolerance: 10%; Supplier 1: Digi-Key; Part Number: C0805C124K5RACTU; RoHS: Yes; Category: Ceramic Capacitors; Stock 1: 5783; Pricing 1: 1=0,46000, 10=0,32700, 50=0,24760, 100=0,21560, 500=0,15972, 1000=0,13576 (USD); Mount: Surface Mount; Case/Package: 0805; Case Code (Imperial): 0805; Case Code (Metric): 2012; Min Operating Temperature: -55°C; Max Operating Temperature: 125°C; Voltage Rating: 50V; Package Quantity: 1; Voltage Rating (DC): 50V; Packaging: Tape and Reel; Dielectric: X7R; Termination: SMD/SMT; Series: C; Construction: Flat; Length: 2mm; Width: 1.2mm; Height: 0.9mm; Thickness: 0.039inch; Depth: 1.25mm; Radiation Hardening: No; REACH SVHC: No SVHC; RoHS Compliant: Yes; ComponentLink1URL: http://www.mouser.com/ds/2/212/KEM_C1002_X7R_SMD-1102033.pdf?src-supplier=Mouser; ComponentLink1Description: http://www.mouser.com/ds/2/212/KEM_C1002_X7R_SMD-1102033.pdf?src-supplier=Mouser; ComponentLink2URL: https://www.verical.com/server-webapp/html/getDatasheet?partID=562109&src-supplier=Verical; ComponentLink2Description: https://www.verical.com/server-webapp/html/getDatasheet?partID=562109&src-supplier=Verical; ComponentLink3URL: http://components.arrow.com/part/dataview/0323_00327038?src-supplier=Arrow+Europe; ComponentLink3Description: http://components.arrow.com/part/dataview/0323_00327038?src-supplier=Arrow+Europe; ComponentLink4URL: http://components.arrow.com/part/dataview/43041357S8158457N7429?src-supplier=Arrow+Electronics; ComponentLink4Description: http://components.arrow.com/part/dataview/43041357S8158457N7429?src-supplier=Arrow+Electronics; ComponentLink5URL: https://search.kemet.com/component-edge/download/datasheet/C0805C124K5RACTU.pdf?src-supplier=Digi-Key; ComponentLink5Description: https://search.kemet.com/component-edge/download/datasheet/C0805C124K5RACTU.pdf?src-supplier=Digi-Key; ComponentLink6URL: http://capacitoredge.kemet.com/capedge2/DataSheet?pn=C0805C124K5RACTU&src-supplier=Avnet; ComponentLink6Description: http://capacitoredge.kemet.com/capedge2/DataSheet?pn=C0805C124K5RACTU&src-supplier=Avnet; ComponentLink7URL: http://capacitoredge.kemet.com/capedge2/DataSheet?pn=C0805C124K5RACTU&src-supplier=Avnet+Europe; ComponentLink7Description: http://capacitoredge.kemet.com/capedge2/DataSheet?pn=C0805C124K5RACTU&src-supplier=Avnet+Europe; Supplier Part Number 1: 399-3487-1-ND
footprint 0805 - CAP - CAPC2012X06N (Chip Capacitor, 2-Leads, Body 2.0x1.3mm, IPC Medium Density)
pins: 1, 2

## C0805C180J3GACTU
designator C?  value 18pF  (hidden comment: C0805C180J3GACTU)
CAP CER 18PF 25V C0G/NP0 0805; Manufacturer: Kemet; Tolerance: 5%; Part Number: C0805C180J3GACTU; Supplier 1: Digi-Key; Supplier Part Number 1: 399-10065-1-ND; Supplier 2: Mouser; Supplier Part Number 2: 80-C0805C180J3G
footprint 0805 - CAP - CAPC2012X06N (Chip Capacitor, 2-Leads, Body 2.0x1.3mm, IPC Medium Density)
pins: 1, 2

## C0805C222K5RACTU
designator C?  value 2.2 nF  (hidden comment: C0805C222K5RACTU)
CAP CER 2200PF 50V X7R 0805; Manufacturer: Kemet; Part Number: C0805C222K5RACTU; Supplier 1: Digi-Key; Supplier Part Number 1: 399-1151-1-ND; Supplier 2: Mouser; Supplier Part Number 2: 80-C0805C222K5R
footprint 0805 - CAP - CAPC2012X06N (Chip Capacitor, 2-Leads, Body 2.0x1.3mm, IPC Medium Density)
pins: 1, 2

## C0805C223K5RACTU
designator C?  value 22nF  (hidden comment: C0805C223K5RACTU)
CAP CER 0.022UF 50V X7R 0805; Manufacturer: Kemet; Part Number: C0805C223K5RACTU; Supplier 1: Digi-Key; Supplier Part Number 1: 399-1163-1-ND; Supplier 2: Mouser; Supplier Part Number 2: 80-C0805C223K5R
footprint 0805 - CAP - CAPC2012X06N (Chip Capacitor, 2-Leads, Body 2.0x1.3mm, IPC Medium Density)
pins: 1, 2

## C0805C224K3RACTU
designator C?  value 0.22uF  (hidden comment: C0805C224K3RACTU)
CAP CER 0.22UF 25V X7R 0805; Manufacturer: Kemet; Tolerance: 10%; Part Number: C0805C224K3RACTU; Supplier 1: Digi-Key; Supplier Part Number 1: 399-8050-1-ND; Supplier 2: Mouser; Supplier Part Number 2: 80-C0805C224K3R
footprint 0805 - CAP - CAPC2012X06N (Chip Capacitor, 2-Leads, Body 2.0x1.3mm, IPC Medium Density)
pins: 1, 2

## C0805C225K4RACTU
designator C?  value 2.2uF  (hidden comment: C0805C225K4RACTU)
CAP CER 2.2UF 16V X7R 0805; Manufacturer: Kemet; Tolerance: 10%; Part Number: C0805C225K4RACTU; Supplier 1: Digi-Key; Supplier Part Number 1: 399-3523-1-ND; Supplier 2: Mouser; Supplier Part Number 2: 80-C0805C225K4R
footprint 0805 - CAP - CAPC2012X06N (Chip Capacitor, 2-Leads, Body 2.0x1.3mm, IPC Medium Density)
pins: 1, 2

## C0805C226M8PAC7800
designator C?  value 22uF  Voltage: 10V  (hidden comment: C0805C226M8PAC7800)
CAP CER 22UF 10V X5R 0805; Manufacturer: Kemet; Tolerance: 20%; Part Number: C0805C226M8PAC7800; Supplier 1: Digi-Key; Supplier Part Number 1: 399-12069-1-ND; Supplier 2: Mouser; Supplier Part Number 2: 80-C0805C226M8P
footprint 0805 - CAP - CAPC2012X06N (Chip Capacitor, 2-Leads, Body 2.0x1.3mm, IPC Medium Density)
pins: 1, 2

## C0805C390J5GACTU
designator C?  value 39pF  (hidden comment: C0805C390J5GACTU)
CAP CER 39PF 50V NP0 0805; Manufacturer: Kemet; Tolerance: 10%; Part Number: C0805C390J5GACTU; Supplier 1: Digi-Key; Supplier Part Number 1: 399-1116-6-ND; Supplier 2: Digi-Key; Supplier Part Number 2: 399-1116-1-ND; Supplier 3: Mouser; Supplier Part Number 3: 80-C0805C390J5G
footprint 0805 - CAP - CAPC2012X06N (Chip Capacitor, 2-Leads, Body 2.0x1.3mm, IPC Medium Density)
pins: 1, 2

## C0805C394K3RACTU
designator C?  value 390nF  (hidden comment: C0805C394K3RACTU)
CAP CER 0.39UF 25V X7R 0805; Manufacturer: Kemet; Part Number: C0805C394K3RACTU; Supplier 1: Digi-Key; Supplier Part Number 1: 399-9238-1-ND; Supplier 2: Mouser; Supplier Part Number 2: 80-C0805C394K3R
footprint 0805 - CAP - CAPC2012X06N (Chip Capacitor, 2-Leads, Body 2.0x1.3mm, IPC Medium Density)
pins: 1, 2

## C0805C474K3RACTU
designator C?  value 0.47uF  (hidden comment: C0805C474K3RACTU)
CAP CER 0.47UF 25V X7R 0805; Manufacturer: Kemet; Tolerance: 10%; Part Number: C0805C474K3RACTU; Supplier 1: Digi-Key; Supplier Part Number 1: 399-8098-1-ND; Supplier 2: Mouser; Supplier Part Number 2: 80-C0805C474K3R
footprint 0805 - CAP - CAPC2012X06N (Chip Capacitor, 2-Leads, Body 2.0x1.3mm, IPC Medium Density)
pins: 1, 2

## C0805C475K8PACTU
designator C?  value 4.7uF  (hidden comment: C0805C475K8PACTU)
CAP CER 4.7UF 10V X5R 0805; Manufacturer: Kemet; Part Number: C0805C475K8PACTU; Supplier 1: Digi-Key; Supplier Part Number 1: 399-3133-1-ND; Supplier 2: Mouser; Supplier Part Number 2: 80-C0805C475K8P
footprint 0805 - CAP - CAPC2012X06N (Chip Capacitor, 2-Leads, Body 2.0x1.3mm, IPC Medium Density)
pins: 1, 2

## C0805C682K1RACTU
designator C?  value 6.8nF
CAP CER 6800PF 100V X7R 0805; Part Number: C0805C682K1RACTU; Manufacturer: Kemet; Supplier 1: Digi-Key; Supplier Part Number 1: 399-8113-1-ND
footprint 0805 - CAP - CAPC2012X06N (Chip Capacitor, 2-Leads, Body 2.0x1.3mm, IPC Medium Density)
pins: 1, 2

## C0805C709D5GACTU
designator C?  value 7pF  (hidden comment: C0805C709D5GACTU)
CAP CER 7PF 50V NP0 0805; Manufacturer: Kemet; Tolerance: 10%; Part Number: C0805C709D5GACTU; Supplier 1: Digi-Key; Supplier Part Number 1: C0805C709D5GACTU-ND
footprint 0805 - CAP - CAPC2012X06N (Chip Capacitor, 2-Leads, Body 2.0x1.3mm, IPC Medium Density)
pins: 1, 2

## C1206C100JDGACTU
designator C?  value 10pF
CAP CER 10PF 1KV NP0 1206; Part Number: C1206C100JDGACTU; Manufacturer: Kemet; Tolerance: 5%; Supplier 1: Digi-Key; Supplier Part Number 1: 399-7072-6-ND; Supplier 2: Mouser; Supplier Part Number 2: 80-C1206C100JDG
footprint 1206 - CAP - RESC3216X12N (Chip, 2-Leads, Body 3.2x1.6mm, IPC Medium Density)
pins: 1, 2

## C1206C103K5RACTU
designator C?  value 10nF
CAP CER 10000PF 50V X7R 1206; Part Number: C1206C103K5RACTU; Manufacturer: Kemet; Tolerance: 10%; Supplier 1: Digi-Key; Supplier Part Number 1: 399-1234-6-ND; Supplier 2: Mouser; Supplier Part Number 2: 80-C1206C103K5R
footprint 1206 - CAP - RESC3216X12N (Chip, 2-Leads, Body 3.2x1.6mm, IPC Medium Density)
pins: 1, 2

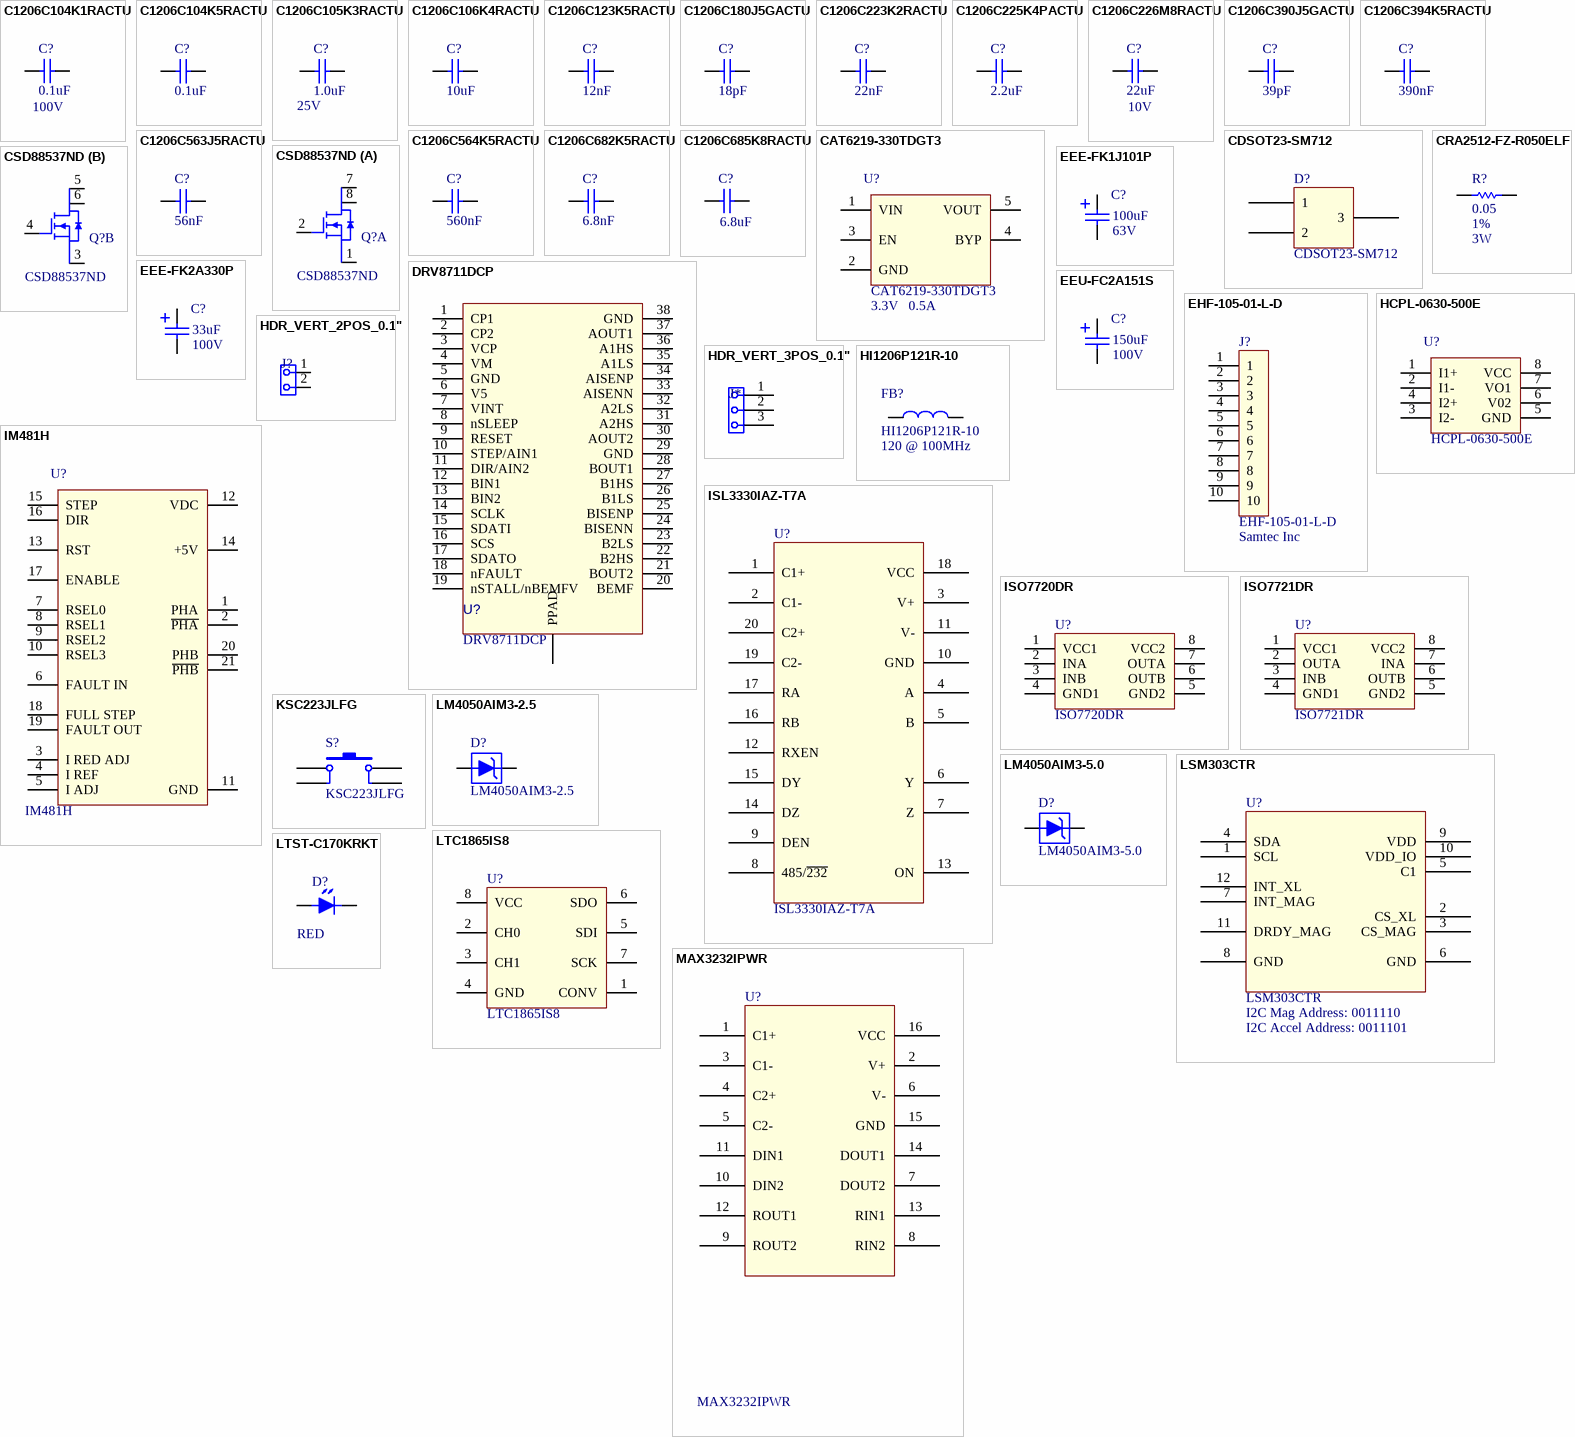
[diagram p2: symbols C1206C104K1RACTU to MAX3232IPWR]

## C1206C104K1RACTU
designator C?  value 0.1uF  Voltage: 100V
CAP CER 0.1UF 100V X7R 1206; Part Number: C1206C104K1RACTU; Manufacturer: Kemet; Tolerance: 10%; Supplier 1: Digi-Key; Supplier Part Number 1: 399-1805-6-ND; Supplier 2: Mouser; Supplier Part Number 2: 80-C1206C104K1RAC
footprint 1206 - CAP - RESC3216X12N (Chip, 2-Leads, Body 3.2x1.6mm, IPC Medium Density)
pins: 1, 2

## C1206C104K5RACTU
designator C?  value 0.1uF
CAP CER 0.1UF 50V 10% X7R 1206; Part Number: C1206C104K5RACTU; Manufacturer: Kemet; Tolerance: 10%; Supplier 1: Digi-Key; Supplier Part Number 1: 399-1249-6-ND; Supplier 2: Mouser; Supplier Part Number 2: 80-C1206C104K5R
footprint 1206 - CAP - RESC3216X12N (Chip, 2-Leads, Body 3.2x1.6mm, IPC Medium Density)
pins: 1, 2

## C1206C105K3RACTU
designator C?  value 1.0uF  Voltage: 25V
CAP CER 1UF 25V X7R 1206; Part Number: C1206C105K3RACTU; Manufacturer: Kemet; Supplier 1: Digi-Key; Supplier Part Number 1: 399-1255-6-ND; Supplier 2: Mouser; Supplier Part Number 2: 80-C1206C105K3RAL
footprint 1206 - CAP - RESC3216X12N (Chip, 2-Leads, Body 3.2x1.6mm, IPC Medium Density)
pins: 1, 2

## C1206C106K4RACTU
designator C?  value 10uF
CAP CER 10UF 16V 10% X7R 1206; Part Number: C1206C106K4RACTU; Manufacturer: Kemet; Tolerance: 10%; Supplier 1: Digi-Key; Supplier Part Number 1: 399-3525-6-ND; Supplier 2: Mouser; Supplier Part Number 2: 80-C1206C106K4R
footprint 1206 - CAP - RESC3216X12N (Chip, 2-Leads, Body 3.2x1.6mm, IPC Medium Density)
pins: 1, 2

## C1206C123K5RACTU
designator C?  value 12nF
CAP CER 0.012UF 50V X7R 1206; Part Number: C1206C123K5RACTU; Manufacturer: Kemet; Supplier 1: Digi-Key; Supplier 2: Mouser; Supplier Part Number 1: 399-1239-6-ND; Supplier Part Number 2: 80-C1206C123K5R
footprint 1206 - CAP - RESC3216X12N (Chip, 2-Leads, Body 3.2x1.6mm, IPC Medium Density)
pins: 1, 2

## C1206C180J5GACTU
designator C?  value 18pF
CAP CER 18PF 50V NP0 1206; Part Number: C1206C180J5GACTU; Manufacturer: Kemet; Supplier 1: Digi-Key; Supplier Part Number 1: 399-1195-6-ND; Supplier 2: Mouser; Supplier Part Number 2: 80-C1206C180J5G
footprint 1206 - CAP - RESC3216X12N (Chip, 2-Leads, Body 3.2x1.6mm, IPC Medium Density)
pins: 1, 2

## C1206C223K2RACTU
designator C?  value 22nF
CAP CER 0.022UF 200V X7R 1206; Part Number: C1206C223K2RACTU; Manufacturer: Kemet; Tolerance: 10%; Supplier 1: Digi-Key; Supplier Part Number 1: 399-8176-6-ND; Supplier 2: Mouser; Supplier Part Number 2: 80-C1206C223K2R
footprint 1206 - CAP - RESC3216X12N (Chip, 2-Leads, Body 3.2x1.6mm, IPC Medium Density)
pins: 1, 2

## C1206C225K4PACTU
designator C?  value 2.2uF
CAP CER 2.2UF 16V X5R 1206; Part Number: C1206C225K4PACTU; Manufacturer: Kemet; Voltage: 16V; Supplier 1: Digi-Key; Supplier Part Number 1: 399-1263-6-ND; Supplier 2: Mouser; Supplier Part Number 2: 80-C1206C225K4P
footprint 1206 - CAP - RESC3216X12N (Chip, 2-Leads, Body 3.2x1.6mm, IPC Medium Density)
pins: 1, 2

## C1206C226M8RACTU
designator C?  value 22uF  Voltage: 10V
CAP CER 22UF 10V X7R 1206; Part Number: C1206C226M8RACTU; Manufacturer: Kemet; Supplier 1: Digi-Key; Supplier Part Number 1: 399-7444-6-ND; Supplier 2: Mouser; Supplier Part Number 2: 80-C1206C226M8R
footprint 1206 - CAP - RESC3216X12N (Chip, 2-Leads, Body 3.2x1.6mm, IPC Medium Density)
pins: 1, 2

## C1206C390J5GACTU
designator C?  value 39pF
CAP CER 39PF 50V NP0 1206; Part Number: C1206C390J5GACTU; Manufacturer: Kemet; Tolerance: 10%; Supplier 1: Digi-Key; Supplier Part Number 1: 399-1200-6-ND; Supplier 2: Mouser; Supplier Part Number 2: 80-C1206C390J5G
footprint 1206 - CAP - RESC3216X12N (Chip, 2-Leads, Body 3.2x1.6mm, IPC Medium Density)
pins: 1, 2

## C1206C394K5RACTU
designator C?  value 390nF
CAP CER 0.39UF 50V X7R 1206; Part Number: C1206C394K5RACTU; Manufacturer: Kemet; Supplier 1: Digi-Key; Supplier Part Number 1: 399-3496-6-ND; Supplier 2: Mouser; Supplier Part Number 2: 80-C1206C394K5R
footprint 1206 - CAP - RESC3216X12N (Chip, 2-Leads, Body 3.2x1.6mm, IPC Medium Density)
pins: 1, 2

## C1206C563J5RACTU
designator C?  value 56nF
CAP CER 0.056UF 50V X7R 1206; Part Number: C1206C563J5RACTU; Manufacturer: Kemet; Supplier 1: Digi-Key; Supplier Part Number 1: 399-9370-6-ND; Supplier 2: Mouser; Supplier Part Number 2: 80-C1206C563J5R
footprint 1206 - CAP - RESC3216X12N (Chip, 2-Leads, Body 3.2x1.6mm, IPC Medium Density)
pins: 1, 2

## C1206C564K5RACTU
designator C?  value 560nF
CAP CER 0.56UF 50V X7R 1206; Part Number: C1206C564K5RACTU; Manufacturer: Kemet; Supplier 1: Digi-Key; Supplier Part Number 1: 399-3499-6-ND; Supplier 2: Mouser; Supplier Part Number 2: 80-C1206C564K5R
footprint 1206 - CAP - RESC3216X12N (Chip, 2-Leads, Body 3.2x1.6mm, IPC Medium Density)
pins: 1, 2

## C1206C682K5RACTU
designator C?  value 6.8nF
CAP CER 6800PF 50V X7R 1206; Part Number: C1206C682K5RACTU; Manufacturer: Kemet; Supplier 1: Digi-Key; Supplier Part Number 1: 399-1232-6-ND; Supplier 2: Mouser; Supplier Part Number 2: 80-C1206C682K5R
footprint 1206 - CAP - RESC3216X12N (Chip, 2-Leads, Body 3.2x1.6mm, IPC Medium Density)
pins: 1, 2

## C1206C685K8RACTU
designator C?  value 6.8uF
CAP CER 6.8UF 10V X7R 1206; Part Number: C1206C685K8RACTU; Manufacturer: Kemet; Voltage: 10V; Supplier 1: Digi-Key; Supplier Part Number 1: 399-4956-6-ND; Supplier 2: Mouser; Supplier Part Number 2: 80-C1206C685K8R
footprint 1206 - CAP - RESC3216X12N (Chip, 2-Leads, Body 3.2x1.6mm, IPC Medium Density)
pins: 1, 2

## CAT6219-330TDGT3
designator U?  Part Number: CAT6219-330TDGT3  Voltage: 3.3V  Current: 0.5A  (hidden comment: *)
IC REG LDO 3.3V 0.5A TSOT23-5; Manufacturer: ON Semiconductor; Supplier 1: Digi-Key; Supplier Part Number 1: CAT6219-330TDGT3CT-ND
footprint SOT23_5P_SOT95P280X140-5N (SOT23, 5-Leads, Body 3.0x3.0mm (max), Pitch 0.95mm, IPC Medium Density)
pins: 1 VIN, 2 GND, 3 EN, 4 BYP, 5 VOUT

## CDSOT23-SM712
designator D?
TVS DIODE 7V/12V 14V/26V SOT23-3; Manufacturer: Bourns; Supplier 1: Digi-Key; Supplier Part Number 1: CDSOT23-SM712CT-ND; Supplier 2: Mouser; Supplier Part Number 2: 652-CDSOT23-SM712; Part Number: CDSOT23-SM712
footprint SOT23-3 (SOT23, 3-Leads, Body 2.90x2.30mm, Pitch 0.95mm, IPC Medium Density)
pins: 1, 2, 3

## CRA2512-FZ-R050ELF
designator R?  value 0.05  Tolerance: 1%  Power: 3W
RES SMD 0.05 OHM 1% 3W 2512; Manufacturer: Bourns Inc.; Part Number: CRA2512-FZ-R050ELF; Supplier 1: Digi-Key; Supplier Part Number 1: CRA2512-FZ-R050ELFCT-ND; Supplier 2: Mouser; Supplier Part Number 2: 652-CRA2512FZ-R50ELF
footprint 2512 - RES - RESC6431X07N (Chip Resistor, 2-Leads, Body 6.35x3.10mm, IPC Medium Density)
pins: 1, 2

## CSD88537ND
designator Q?
MOSFET 2N-CH 60V 15A 8SOIC; Manufacturer: Texas Instruments; Supplier 1: Digi-Key; Supplier Part Number 1: 296-37303-6-ND; Supplier 2: Mouser; Supplier Part Number 2: 595-CSD88537ND; Part Number: CSD88537ND
footprint SOIC8 (SOIC, 8-Leads, Body 5.0x4.0mm (max), Pitch 1.27mm, IPC Medium Density)
part A pins: 1 S1, 2 G1, 7 D1, 8 D1
part B pins: 3 S2, 4 G2, 5 D2, 6 D2

## DRV8711DCP
designator U?  Part Number: DRV8711DCP
IC MOTOR CONTROLLER SPI 38HTSSOP; Manufacturer: Texas Instruments; Supplier 1: Digi-Key; Supplier Part Number 1: 296-36440-5-ND; Supplier 2: Mouser; Supplier Part Number 2: 595-DRV8711DCP
footprint R-PDSO-G38 (PowerPAD Plastic Small-Outline Package)
pins: 0 PPAD, 1 CP1, 2 CP2, 3 VCP, 4 VM, 5 GND, 6 V5, 7 VINT, 8 nSLEEP, 9 RESET, 10 STEP/AIN1, 11 DIR/AIN2, 12 BIN1, 13 BIN2, 14 SCLK, 15 SDATI, 16 SCS, 17 SDATO, 18 nFAULT, 19 nSTALL/nBEMFV, 20 BEMF, 21 BOUT2, 22 B2HS, 23 B2LS, 24 BISENN, 25 BISENP, 26 B1LS, 27 B1HS, 28 BOUT1, 29 GND, 30 AOUT2, 31 A2HS, 32 A2LS, 33 AISENN, 34 AISENP, 35 A1LS, 36 A1HS, 37 AOUT1, 38 GND

## EEE-FK1J101P
designator C?  value 100uF  Voltage: 63V
CAP ALUM 100UF 20% 63V SMD; Part Number: EEE-FK1J101P; Manufacturer: Panasonic Electronic Components; Supplier 1: Digi-Key; Supplier Part Number 1: PCE3819CT-ND; Supplier 2: Mouser; Supplier Part Number 2: 667-EEE-FK1J101P
pins: 1, 2

## EEE-FK2A330P
designator C?  value 33uF  Voltage: 100V  (hidden comment: EEE-FK2A330P)
CAP ALUM 33UF 20% 100V SMD; Manufacturer: Panasonic Electronic Components; Part Number: EEE-FK2A330P; Supplier 1: Digi-Key; Supplier Part Number 1: PCE3846CT-ND; Supplier 2: Mouser; Supplier Part Number 2: 667-EEE-FK2A330P
footprint CAP - SIZE G
pins: 1, 2